# EAGLE library part DS03E (library switch-dil)
DIL/CODE SWITCH
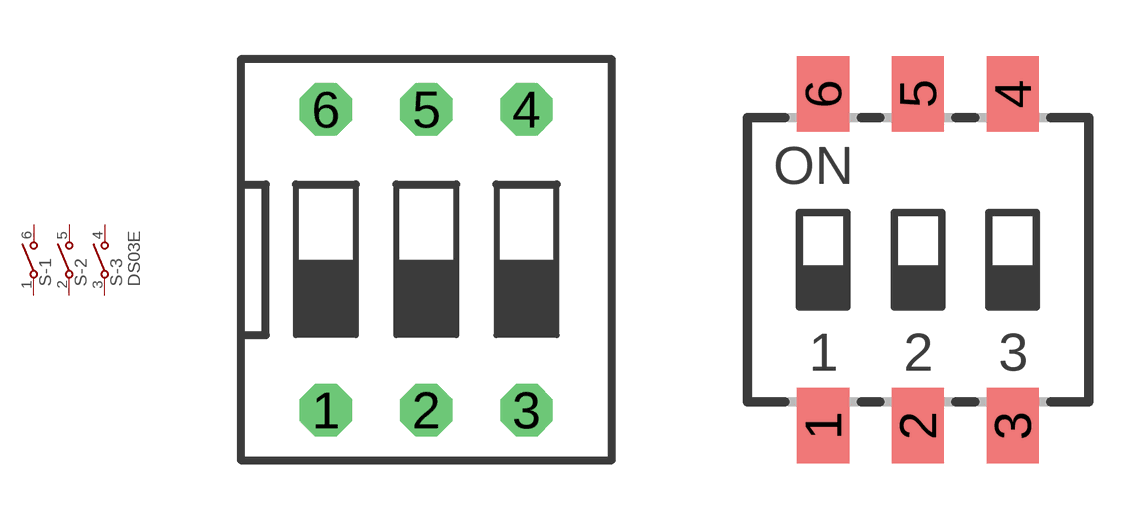
[diagram p9: symbol with the pads of DS-03; footprints DS-03, SDA03SK]

Designator prefix S; gates -1=S -2=S -3=S+V

## DS03E  [DS-03]
1  -1:1  pas
2  -2:1  pas
3  -3:1  pas
4  -3:2  pas
5  -2:2  pas
6  -1:2  pas

## DS03E-SDA03SK  [SDA03SK]
Pads as for DS-03

## DS03E-DA-03  [DA-03]
Pads as for DS-03

## Footprint DS-03 (pad centres in mm)
DIL/CODE SWITCH Mors distributor Buerklin, 17G552
drill 0.813 octagon: 1 -2.54,-3.81; 2 0,-3.81; 3 2.54,-3.81; 4 2.54,3.81; 5 0,3.81; 6 -2.54,3.81

## Footprint SDA03SK (pad centres in mm)
C&K SDA Series
smd 1.397 x 2.032: 1 -2.54,-4.445; 2 0,-4.445; 3 2.54,-4.445; 4 2.54,4.445; 5 0,4.445; 6 -2.54,4.445

## Footprint DA-03 (pad centres in mm)
DIL/CODE SWITCH Mors
drill 0.813 octagon: 1 -2.54,-1.27; 2 0,-1.27; 3 2.54,-1.27; 4 2.54,1.27; 5 0,1.27; 6 -2.54,1.27